# EAGLE library part 74AHC125 (library misc)
Quad buffer/line driver with 3-state outputs controlled by the output enable inputs (nOE)
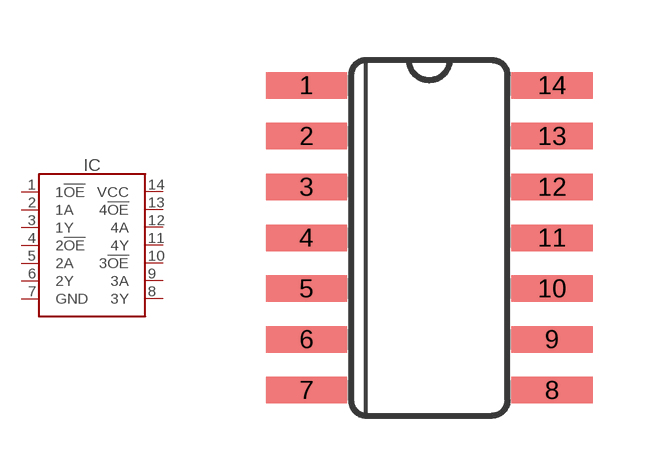
[diagram p62: symbol with the pads of SOIC14; footprint SOIC14]

Designator prefix IC

## 74AHC125-SO14 (MANF: Nexperia; MANF#: 74AHC125D)  [SOIC14]
1  1!OE
2  1A
3  1Y
4  2!OE
5  2A
6  2Y
7  GND
8  3Y
9  3A
10  3!OE
11  4Y
12  4A
13  4!OE
14  VCC

## Footprint SOIC14 (pad centres in mm)
3D model <http://grabcad.com/library/106x-soic-packages-small-outline-integrated-circuit-1/details?folder_id=13776991>
smd 2.032 x 0.66: 1 -3.073,3.82; 2 -3.073,2.55; 3 -3.073,1.28; 4 -3.073,0.01; 5 -3.073,-1.26; 6 -3.073,-2.53; 7 -3.073,-3.8; 8 3.073,-3.8; 9 3.073,-2.53; 10 3.073,-1.26; 11 3.073,0.01; 12 3.073,1.28; 13 3.073,2.55; 14 3.073,3.82